# Altium footprint library PCB - LEADLESS - QFN - ST QFN20 3x3.PCBLIB: 1 footprints
Each footprint in its own frame and in the unit in brackets; x right, y up, seen from the top. Pads: shape width x height; smd on the part's side, far side on the other; paste and mask are expansions set on the pad; w line width, h text height; cw(c..) or ccw(c..) is an arc to the next point about the centre after c.
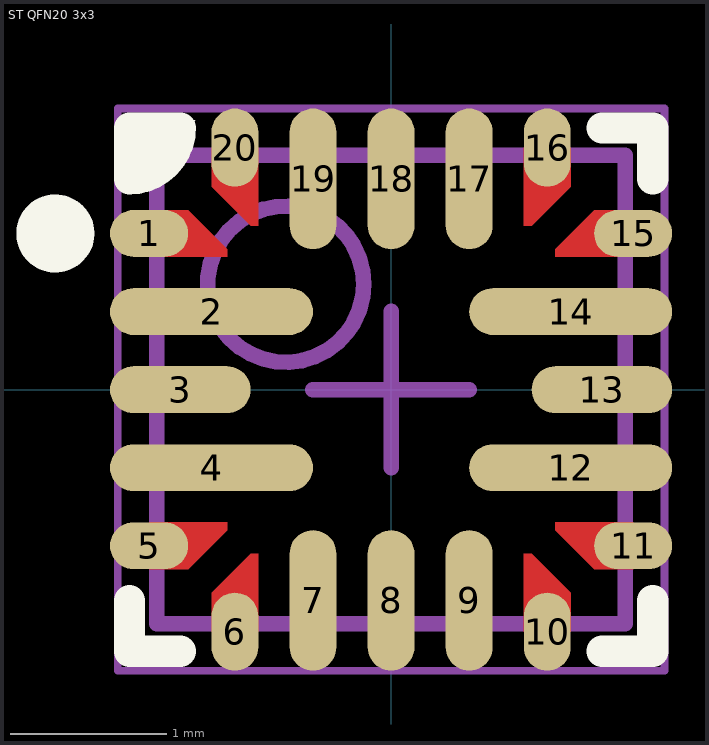
[diagram p0: the footprint, top view; thin cyan lines are the x and y axes]

## ST QFN20 3x3 [mm] "QFN, 20-Leads, Body 3.00x3.00mm, Pitch 0.5mm, IPC Medium Density"
height 1
pads (20):
  oval 0.5x0.3 smd: 1(-1.55,1) 5(-1.55,-1) 11(1.55,-1) 15(1.55,1)
  oval 1.3x0.3 smd: 2(-1.15,0.5) 4(-1.15,-0.5) 12(1.15,-0.5) 14(1.15,0.5)
  oval 0.9x0.3 smd: 3(-1.35,0) 13(1.35,0)
  oval 0.3x0.5 smd: 6(-1,-1.55) 10(1,-1.55) 16(1,1.55) 20(-1,1.55)
  oval 0.3x0.9 smd: 7(-0.5,-1.35) 8(0,-1.35) 9(0.5,-1.35) 17(0.5,1.35) 18(0,1.35) 19(-0.5,1.35)
Top Layer:
  region: -1.55,-1.15 -1.3,-1.15 -1.05,-0.9 -1.05,-0.85 -1.55,-0.85
  region: 1.15,-1.55 1.15,-1.3 0.9,-1.05 0.85,-1.05 0.85,-1.55
  region: -1.55,1.15 -1.3,1.15 -1.05,0.9 -1.05,0.85 -1.55,0.85
  region: -1.15,-1.55 -1.15,-1.3 -0.9,-1.05 -0.85,-1.05 -0.85,-1.55
  region: 1.55,-1.15 1.3,-1.15 1.05,-0.9 1.05,-0.85 1.55,-0.85
  region: 1.15,1.55 1.15,1.3 0.9,1.05 0.85,1.05 0.85,1.55
  region: -1.15,1.55 -1.15,1.3 -0.9,1.05 -0.85,1.05 -0.85,1.55
  region: 1.55,1.15 1.3,1.15 1.05,0.9 1.05,0.85 1.55,0.85
Top Overlay:
  circle w0.25: c-2.15,1 r0.125
  region: -1.255,1.725 -1.745,1.725 -1.745,1.35 -1.475,1.4
  lines w0.2: -1.675,-1.35 -1.675,-1.675 -1.35,-1.675 ; 1.35,-1.675 1.675,-1.675 1.675,-1.35 ; 1.35,1.675 1.675,1.675 1.675,1.35 ; -1.675,1.35 ccw(c-1.675,1.675) -1.35,1.675 -1.675,1.675 -1.675,1.35
Mechanical 13:
  circle w0.1: c-0.675,0.675 r0.5
  lines w0.1: -1.5,-1.5 -1.5,1.5 1.5,1.5 1.5,-1.5 -1.5,-1.5
Mechanical 15:
  lines w0.05: -1.75,-1.8 1.75,-1.8 1.75,1.8 -1.75,1.8 -1.75,-1.8
  lines w0.1: -0.5,0 0.5,0 ; 0,-0.5 0,0.5
3D body "ST - QFN20 3x3.step": height 0.85, standoff 0, extent -1.5,-1.5 1.5,1.5